# Altium schematic symbol library SnapEDAsch.SchLib: 1 symbol
Pins are listed as number, name and electrical type; pins without a type are passive.

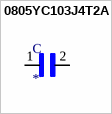
[diagram p0: symbol 0805YC103J4T2A]

## 0805YC103J4T2A
designator C
10000pF Â±5% 16V Ceramic Capacitor X7R 0805 _2012 Metric_; MF: AVX; MP: 0805YC103J4T2A; Package: 2012 AVX; Availability: Unavailable; Value: *; SnapEDA_Link: https://www.snapeda.com/parts/0805YC103J4T2A/AVX/view-part/606803/?ref=snap; Price: None
footprint CAPC2012X94N
pins: 1, 2